# Altium schematic symbol library connector.SchLib: 2 symbols
Pins are listed as number, name and electrical type; pins without a type are passive.

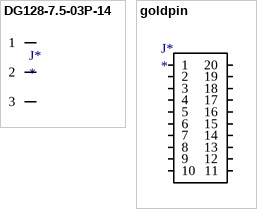
[diagram p0: symbols DG128-7.5-03P-14 to goldpin]

## DG128-7.5-03P-14
designator J*
footprint DG128-7.5-03P-14
pins: 1, 2, 3

## goldpin
designator J*
footprint goldpin 2x10
pins: 1, 2, 3, 4, 5, 6, 7, 8, 9, 10, 11, 12, 13, 14, 15, 16, 17, 18, 19, 20